# EAGLE library part TDA8702 (library tda8702)
Dual In Line / Socket
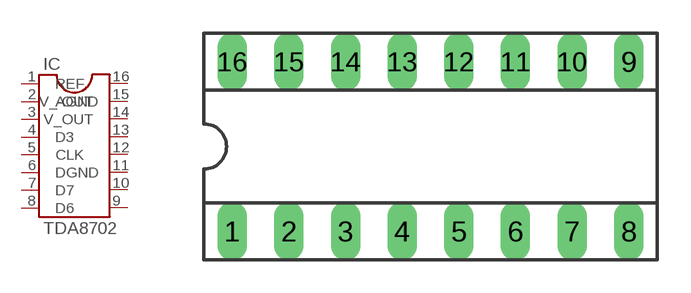
[diagram p0: symbol with the pads of TDA8702-SOCKET-16; footprint TDA8702-SOCKET-16]

Designator prefix IC

## TDA8702S  [TDA8702-SOCKET-16]
1  REF  pas
2  AGND  pas
3  D2  pas
4  D3  pas
5  CLK  pas
6  DGND  pas
7  D7  pas
8  D6  pas
9  D5  pas
10  D4  pas
11  D1  pas
12  D0  pas
13  V_CCD  pas
14  V_OUT  pas
15  V_-OUT  pas
16  V_CCA  pas

## Footprint TDA8702-SOCKET-16 (pad centres in mm)
Dual In Line Socket
drill 0.813 long: 1 -8.89,-3.81; 2 -6.35,-3.81; 3 -3.81,-3.81; 4 -1.27,-3.81; 5 1.27,-3.81; 6 3.81,-3.81; 7 6.35,-3.81; 8 8.89,-3.81; 9 8.89,3.81; 10 6.35,3.81; 11 3.81,3.81; 12 1.27,3.81; 13 -1.27,3.81; 14 -3.81,3.81; 15 -6.35,3.81; 16 -8.89,3.81